# EAGLE library part 2-1445055-6 (library con-tyco-micro-mate-n-lok2)
Through Hole 6pos 1row
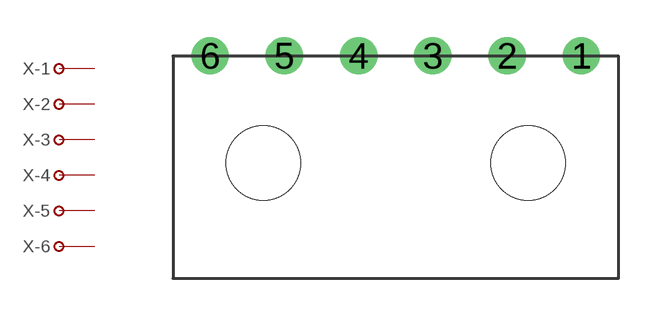
[diagram p2: symbol with the pads of THROUGH_VERTICAL_6X1; footprint THROUGH_VERTICAL_6X1]

Designator prefix X; gates -1=PIN -2=PIN -3=PIN -4=PIN -5=PIN -6=PIN

## 2-1445055-6  [THROUGH_VERTICAL_6X1]
1  -1:P$1
2  -2:P$1
3  -3:P$1
4  -4:P$1
5  -5:P$1
6  -6:P$1

## Footprint THROUGH_VERTICAL_6X1 (pad centres in mm)
drill 1: 1 7.5,0; 2 4.5,0; 3 1.5,0; 4 -1.5,0; 5 -4.5,0; 6 -7.5,0
hole 3 at -5.35,-4.32
hole 3 at 5.35,-4.32